# Altium footprint library Connector.PcbLib: 88 footprints (part 5 of 6)
Each footprint in its own frame and in the unit in brackets; x right, y up, seen from the top. Pads: shape width x height; smd on the part's side, far side on the other; paste and mask are expansions set on the pad; w line width, h text height; cw(c..) or ccw(c..) is an arc to the next point about the centre after c.
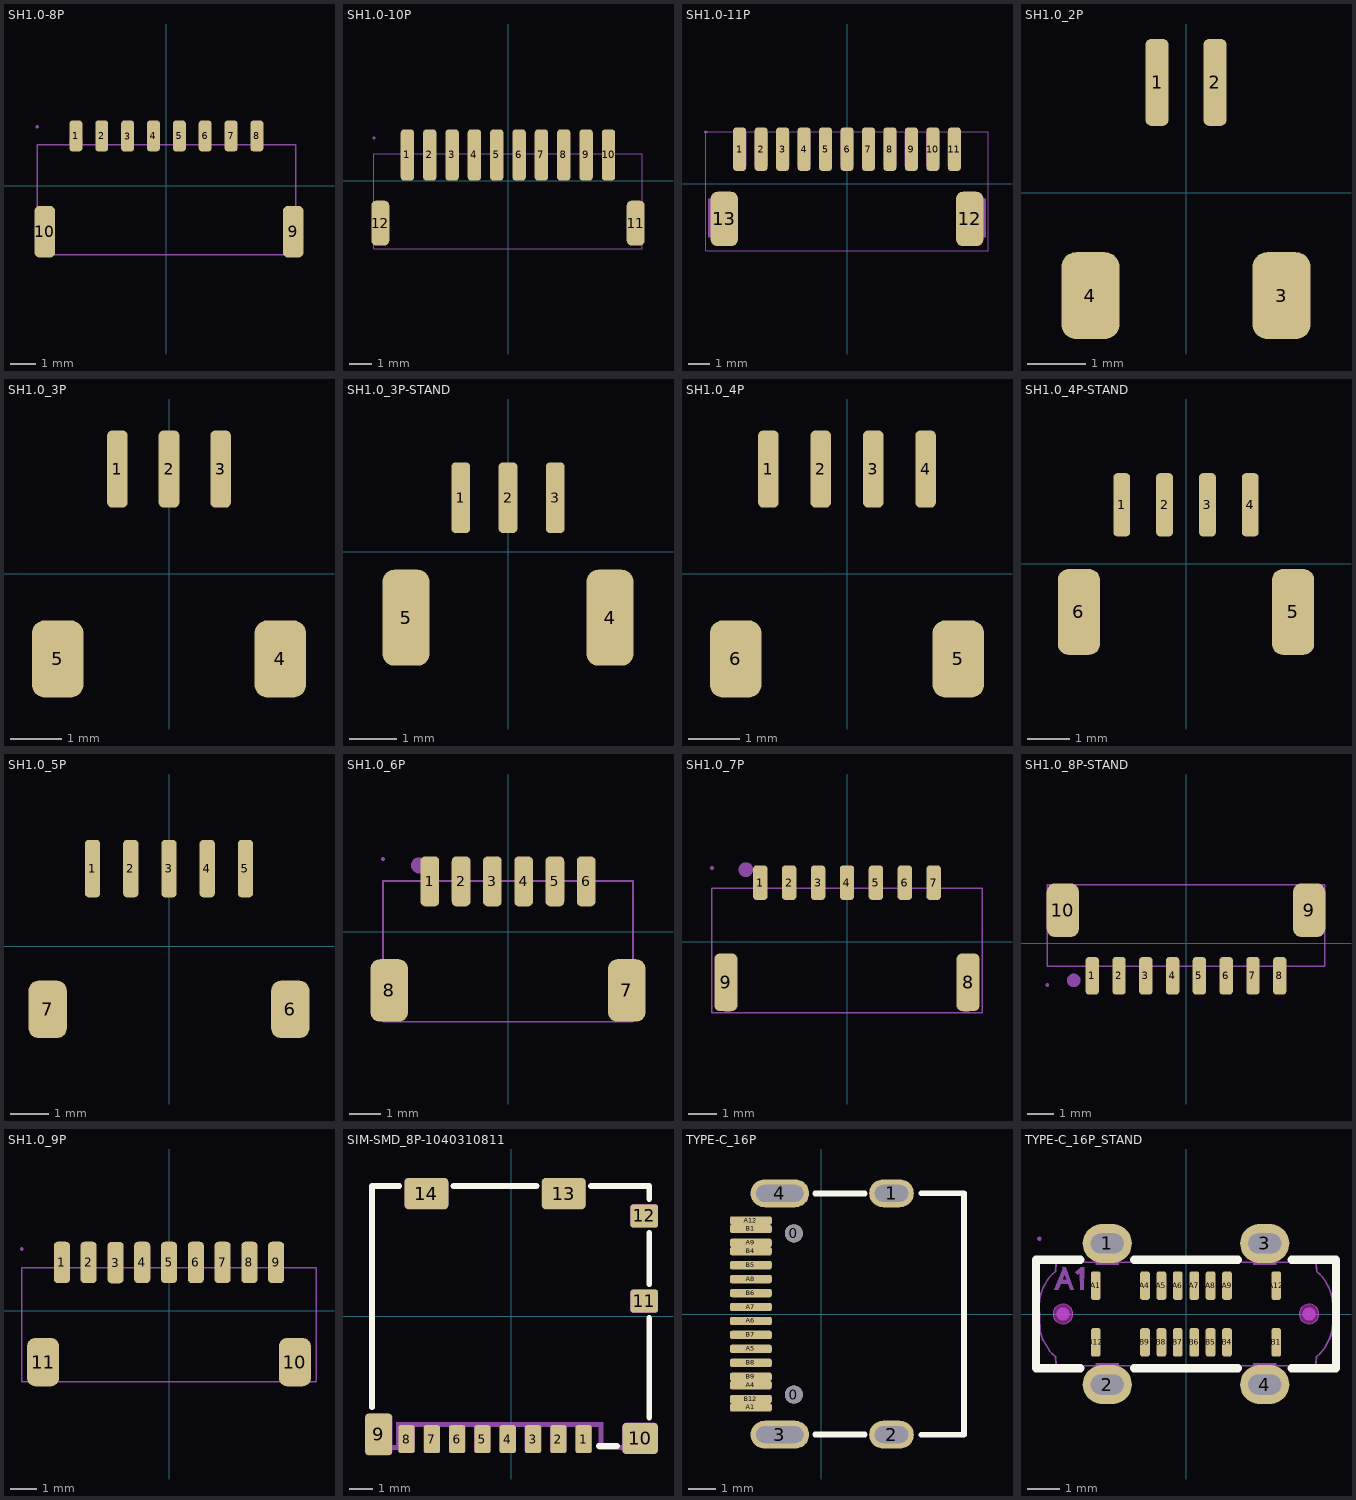
[diagram p4: the footprints below, top view; thin cyan lines are the x and y axes]

## SH1.0-8P [mm]
pads (10):
  rrect50% 0.5x1.2 smd paste+0 mask+0.051: 1(-3.5,1.924) 2(-2.5,1.924) 3(-1.5,1.922) 4(-0.5,1.924) 5(0.5,1.924) 6(1.5,1.924) 7(2.5,1.924) 8(3.5,1.924)
  rrect50% 0.8x2 smd paste+0 mask+0.051: 9(4.901,-1.778) 10(-4.699,-1.778)
Mechanical 6:
  circle w0.254: c-3.5,1.7 r0.127
Mechanical 15:
  region: -4.95,-1.174 -4.65,-1.174 -4.65,-2.674 -4.95,-2.674
  region: 4.65,-1.174 4.95,-1.174 4.95,-2.674 4.65,-2.674
  region: -3.4,1.476 -3.6,1.476 -3.6,2.276 -3.4,2.276
  region: -2.4,1.476 -2.6,1.476 -2.6,2.276 -2.4,2.276
  region: -1.4,1.476 -1.6,1.476 -1.6,2.276 -1.4,2.276
  region: -0.4,1.476 -0.6,1.476 -0.6,2.276 -0.4,2.276
  region: 0.6,1.476 0.4,1.476 0.4,2.276 0.6,2.276
  region: 1.6,1.476 1.4,1.476 1.4,2.276 1.6,2.276
  region: 2.6,1.476 2.4,1.476 2.4,2.276 2.6,2.276
  region: 3.6,1.476 3.4,1.476 3.4,2.276 3.6,2.276
  region: -4.94,2.276 -4.94,2.3 -4.975,2.336 -5.025,2.336 -5.06,2.3 -5.06,2.276 -5.06,2.251 -5.025,2.216 -4.975,2.216 -4.94,2.251 -4.94,2.276
  lines w0.051: -5,-2.674 5,-2.674 5,1.576 -5,1.576 -5,-2.674
3D body "SM8B-SRSS-TB.step": height 2.9, standoff -0.05, extent -5,-2.774 5,2.176

## SH1.0-10P [mm]
pads (12):
  rrect50% 0.6x2.286 smd paste+0 mask+0.051: 1(-4.503,1.143) 2(-3.503,1.143) 3(-2.5,1.143) 4(-1.503,1.143) 5(-0.503,1.143) 6(0.497,1.143) 7(1.497,1.143) 8(2.497,1.143) 9(3.497,1.143) 10(4.499,1.143)
  rrect50% 0.8x2 smd paste+0 mask+0.051: 11(5.715,-1.905) 12(-5.715,-1.905)
Mechanical 15:
  region: 5.676,-1.255 5.926,-1.255 5.926,-2.555 5.676,-2.555
  region: -5.926,-1.255 -5.676,-1.255 -5.676,-2.555 -5.926,-2.555
  region: -4.403,1.154 -4.603,1.154 -4.603,1.904 -4.403,1.904
  region: -3.403,1.154 -3.603,1.154 -3.603,1.904 -3.403,1.904
  region: -2.4,1.154 -2.6,1.154 -2.6,1.904 -2.4,1.904
  region: -1.403,1.154 -1.603,1.154 -1.603,1.904 -1.403,1.904
  region: -0.403,1.154 -0.603,1.154 -0.603,1.904 -0.403,1.904
  region: 0.597,1.154 0.397,1.154 0.397,1.904 0.597,1.904
  region: 1.597,1.154 1.397,1.154 1.397,1.904 1.597,1.904
  region: 2.597,1.154 2.397,1.154 2.397,1.904 2.597,1.904
  region: 3.597,1.154 3.397,1.154 3.397,1.904 3.597,1.904
  region: 4.599,1.154 4.399,1.154 4.399,1.904 4.599,1.904
  region: -5.94,1.904 -5.94,1.929 -5.975,1.964 -6.025,1.964 -6.06,1.929 -6.06,1.904 -6.06,1.88 -6.025,1.844 -5.975,1.844 -5.94,1.88 -5.94,1.904
  lines w0.051: -6,-3.046 6,-3.046 6,1.204 -6,1.204 -6,-3.046
3D body "SM10B-SRSS-TB.step": height 2.9, standoff -0.05, extent -6.003,-3.096 5.997,1.854

## SH1.0-11P [mm] "SH1.0-11P卧贴"
pads (13):
  rrect50% 0.6x2.032 smd mask+0.05: 1(-5,1.6) 2(-4,1.6) 3(-3,1.6) 4(-2,1.6) 5(-1,1.6) 6(0,1.6) 7(1,1.6) 8(2,1.6) 9(3,1.6) 10(4,1.6) 11(5,1.6)
  rrect50% 1.27x2.54 smd mask+0.05: 12(5.715,-1.651) 13(-5.715,-1.651)
Mechanical 15:
  region: 4.7,2.4 5.3,2.4 5.3,0.8 4.7,0.8
  region: 5.65,-0.7 6.45,-0.7 6.45,-2.5 5.65,-2.5
  region: -6.45,-0.7 -5.65,-0.7 -5.65,-2.5 -6.45,-2.5
  region: 3.7,2.4 4.3,2.4 4.3,0.8 3.7,0.8
  region: 2.7,2.4 3.3,2.4 3.3,0.8 2.7,0.8
  region: 1.7,2.4 2.3,2.4 2.3,0.8 1.7,0.8
  region: 0.7,2.4 1.3,2.4 1.3,0.8 0.7,0.8
  region: -0.3,2.4 0.3,2.4 0.3,0.8 -0.3,0.8
  region: -1.3,2.4 -0.7,2.4 -0.7,0.8 -1.3,0.8
  region: -2.3,2.4 -1.7,2.4 -1.7,0.8 -2.3,0.8
  region: -3.3,2.4 -2.7,2.4 -2.7,0.8 -3.3,0.8
  region: -4.3,2.4 -3.7,2.4 -3.7,0.8 -4.3,0.8
  region: -5.3,2.4 -4.7,2.4 -4.7,0.8 -5.3,0.8
  region: -6.517,2.4 -6.517,2.425 -6.552,2.46 -6.602,2.46 -6.637,2.425 -6.637,2.4 -6.637,2.375 -6.602,2.34 -6.552,2.34 -6.517,2.375 -6.517,2.4
  lines w0.051: -6.577,-3.127 -6.577,2.4 6.577,2.4 6.577,-3.127 -6.577,-3.127
3D body "SM11B-SRSS-TB.step": height 2.9, standoff -0.05, extent -6.5,-2.794 6.5,2.156

## SH1.0_2P [mm] "SH1.0_2P"
pads (4):
  rrect50% 0.4x1.5 smd: 1(-0.5,1.905) 2(0.5,1.905)
  rrect50% 1x1.5 smd: 3(1.651,-1.778) 4(-1.651,-1.778)
3D body "SM2B-SRSS-TB.step": height 2.9, standoff -0.05, extent -2.008,-2.472 1.992,2.478

## SH1.0_3P [mm] "SH1.0_3P"
pads (5):
  rrect50% 0.4x1.5 smd: 1(-1,2.032) 2(0,2.032) 3(1,2.032)
  rrect50% 1x1.5 smd: 4(2.159,-1.651) 5(-2.159,-1.651)
3D body "SM3B-SRSS-TB.step": height 2.9, standoff -0.05, extent -2.516,-2.345 2.484,2.605

## SH1.0_3P-STAND [mm] "SH1.0_3P"
pads (5):
  rrect50% 0.4x1.5 smd: 1(-1,1.143) 2(0,1.143) 3(1,1.143)
  rrect50% 1x2.032 smd: 4(2.159,-1.397) 5(-2.159,-1.397)
3D body "BM3B-SRSS-TB.step": height 4.25, standoff -0.05, extent -2.5,-2.286 2.5,1.314

## SH1.0_4P [mm] "SH1.0_4P"
pads (6):
  rrect50% 0.4x1.5 smd: 1(-1.524,2.032) 2(-0.508,2.032) 3(0.508,2.032) 4(1.524,2.032)
  rrect50% 1x1.5 smd: 5(2.159,-1.651) 6(-2.159,-1.651)
3D body "SM4B-SRSS-TB.step": height 2.9, standoff -0.05, extent -3,-2.332 3,2.618

## SH1.0_4P-STAND [mil] "SH1.0_4P"
pads (6):
  rrect50% 15.75x59.06 smd: 1(-60,55) 2(-20,55) 3(20,55) 4(60,55)
  rrect50% 39.37x80 smd: 5(100,-45) 6(-100,-45)
3D body "BM4B-SRSS-TB.step": height 167.32, standoff -1.97, extent -118.11,-81.73 118.11,60

## SH1.0_5P [mm] "SH1.0_5P"
pads (7):
  rrect50% 0.4x1.5 smd: 1(-2,2.032) 2(-1,2.032) 3(0,2.032) 4(1,2.032) 5(2,2.032)
  rrect50% 1x1.5 smd: 6(3.175,-1.651) 7(-3.175,-1.651)
3D body "SM5B-SRSS-TB.step": height 2.9, standoff -0.05, extent -3.532,-2.345 3.468,2.605

## SH1.0_6P [mm] "SH1.0_6P"
pads (8):
  rrect50% 0.6x1.6 smd mask+0.05: 1(-2.5,1.619) 2(-1.5,1.619) 3(-0.5,1.619) 4(0.5,1.619) 5(1.5,1.619) 6(2.5,1.619)
  rrect50% 1.2x2 smd mask+0.05: 7(3.8,-1.873) 8(-3.8,-1.873)
Mechanical 6:
  circle w0.254: c-2.847,2.128 r0.127
Mechanical 15:
  region: 3.7,-1.25 3.9,-1.25 3.9,-2.75 3.7,-2.75
  region: -3.9,-1.25 -3.7,-1.25 -3.7,-2.75 -3.9,-2.75
  region: -2.6,2.33 -2.4,2.33 -2.4,1.33 -2.6,1.33
  region: -1.6,2.33 -1.4,2.33 -1.4,1.33 -1.6,1.33
  region: -0.6,2.33 -0.4,2.33 -0.4,1.33 -0.6,1.33
  region: 0.4,2.33 0.6,2.33 0.6,1.33 0.4,1.33
  region: 1.4,2.33 1.6,2.33 1.6,1.33 1.4,1.33
  region: 2.4,2.33 2.6,2.33 2.6,1.33 2.4,1.33
  region: -3.94,2.33 -3.94,2.355 -3.975,2.39 -4.025,2.39 -4.06,2.355 -4.06,2.33 -4.06,2.305 -4.025,2.27 -3.975,2.27 -3.94,2.305 -3.94,2.33
  lines w0.051: -4,-2.87 4,-2.87 4,1.63 -4,1.63 -4,-2.87
3D body "SM6B-SRSS-TB.step": height 2.9, standoff -0.05, extent -4,-2.918 4,2.032

## SH1.0_7P [mm] "SH1.0_7P"
pads (9):
  rrect50% 0.5x1.2 smd mask+0.05: 1(-3,2.05) 2(-2,2.05) 3(-1,2.05) 4(0,2.05) 5(1,2.05) 6(2,2.05) 7(3,2.05)
  rrect50% 0.8x2 smd mask+0.05: 8(4.191,-1.397) 9(-4.191,-1.397)
Mechanical 6:
  circle w0.254: c-3.5,2.5 r0.127
Mechanical 15:
  region: -4.615,2.55 -4.615,2.575 -4.65,2.61 -4.7,2.61 -4.735,2.575 -4.735,2.55 -4.735,2.525 -4.7,2.49 -4.65,2.49 -4.615,2.525 -4.615,2.55
  region: 2.9,2.55 3.1,2.55 3.1,1.65 2.9,1.65
  region: 1.9,2.55 2.1,2.55 2.1,1.65 1.9,1.65
  region: 0.9,2.55 1.1,2.55 1.1,1.65 0.9,1.65
  region: -0.1,2.55 0.1,2.55 0.1,1.65 -0.1,1.65
  region: -1.1,2.55 -0.9,2.55 -0.9,1.65 -1.1,1.65
  region: -2.1,2.55 -1.9,2.55 -1.9,1.65 -2.1,1.65
  region: -3.1,2.55 -2.9,2.55 -2.9,1.65 -3.1,1.65
  region: 4.025,-1.25 4.225,-1.25 4.225,-2.45 4.025,-2.45
  region: -4.225,-1.25 -4.025,-1.25 -4.025,-2.45 -4.225,-2.45
  lines w0.051: -4.675,-2.45 -4.675,1.85 4.675,1.85 4.675,-2.45 -4.675,-2.45
3D body "SM7B-SRSS-TB.step": height 2.9, standoff -0.05, extent -4.5,-2.4 4.5,2.55

## SH1.0_8P-STAND [mm]
pads (10):
  rrect50% 0.5x1.4 smd paste+0 mask+0.05: 1(-3.5,-1.225) 2(-2.5,-1.225) 3(-1.5,-1.225) 4(-0.5,-1.225) 5(0.5,-1.225) 6(1.5,-1.225) 7(2.5,-1.225) 8(3.5,-1.225)
  rrect50% 1.2x2 smd paste+0 mask+0.05: 9(4.6,1.225) 10(-4.6,1.225)
Mechanical 6:
  circle w0.254: c-4.191,-1.397 r0.127
Mechanical 15:
  region: -5.115,-1.565 -5.115,-1.54 -5.15,-1.505 -5.2,-1.505 -5.235,-1.54 -5.235,-1.565 -5.235,-1.59 -5.2,-1.625 -5.15,-1.625 -5.115,-1.59 -5.115,-1.565
  region: 0.4,-0.765 0.6,-0.765 0.6,-1.565 0.4,-1.565
  region: 1.4,-0.765 1.6,-0.765 1.6,-1.565 1.4,-1.565
  region: 3.4,-0.765 3.6,-0.765 3.6,-1.565 3.4,-1.565
  region: 2.4,-0.765 2.6,-0.765 2.6,-1.565 2.4,-1.565
  region: -1.6,-0.765 -1.4,-0.765 -1.4,-1.565 -1.6,-1.565
  region: -0.6,-0.765 -0.4,-0.765 -0.4,-1.565 -0.6,-1.565
  region: -2.6,-0.765 -2.4,-0.765 -2.4,-1.565 -2.6,-1.565
  region: -3.6,-0.765 -3.4,-0.765 -3.4,-1.565 -3.6,-1.565
  region: -4.7,1.875 -4.5,1.875 -4.5,0.575 -4.7,0.575
  region: 4.5,1.875 4.7,1.875 4.7,0.575 4.5,0.575
  lines w0.051: -5.175,-0.875 -5.175,2.175 5.175,2.175 5.175,-0.875 -5.175,-0.875

## SH1.0_9P [mm] "SH1.0_9P"
pads (11):
  rrect50% 0.6x1.55 smd mask+0.051: 1(-4,1.797) 2(-3,1.797) 3(-1.997,1.795) 4(-0.999,1.797) 5(0,1.797) 6(1.001,1.797) 7(2,1.797) 8(3,1.797) 9(4,1.797)
  rrect50% 1.2x1.8 smd mask+0.051: 10(4.7,-1.924) 11(-4.7,-1.924)
Mechanical 15:
  region: -4.977,-1.224 -4.677,-1.224 -4.677,-2.624 -4.977,-2.624
  region: 4.677,-1.224 4.977,-1.224 4.977,-2.624 4.677,-2.624
  region: -3.9,1.549 -4.1,1.549 -4.1,2.299 -3.9,2.299
  region: -2.9,1.549 -3.1,1.549 -3.1,2.299 -2.9,2.299
  region: -1.897,1.547 -2.097,1.547 -2.097,2.297 -1.897,2.297
  region: -0.899,1.549 -1.099,1.549 -1.099,2.299 -0.899,2.299
  region: 0.1,1.549 -0.1,1.549 -0.1,2.299 0.1,2.299
  region: 1.101,1.549 0.901,1.549 0.901,2.299 1.101,2.299
  region: 2.1,1.549 1.9,1.549 1.9,2.299 2.1,2.299
  region: 3.1,1.549 2.9,1.549 2.9,2.299 3.1,2.299
  region: 4.1,1.549 3.9,1.549 3.9,2.299 4.1,2.299
  region: -5.44,2.299 -5.44,2.324 -5.475,2.359 -5.525,2.359 -5.56,2.324 -5.56,2.299 -5.56,2.275 -5.525,2.239 -5.475,2.239 -5.44,2.275 -5.44,2.299
  lines w0.051: -5.5,-2.649 5.5,-2.649 5.5,1.601 -5.5,1.601 -5.5,-2.649
3D body "SM9B-SRSS-TB.step": height 2.9, standoff -0.05, extent -5.5,-2.701 5.5,2.249

## SIM-SMD_8P-1040310811 [mm] "SMD; TFCard"
height -909.212
pads (14):
  rrect25% 0.7x1.2 smd mask+0.05: 1(3.138,-5.337) 2(2.037,-5.337) 3(0.938,-5.337) 4(-0.162,-5.337) 5(-1.263,-5.337) 6(-2.363,-5.337) 7(-3.462,-5.337) 8(-4.562,-5.337)
  rrect25% 1.17x1.8 smd mask+0.05: 9(-5.773,-5.138)
  rrect25% 1.55x1.35 smd mask+0.05: 10(5.598,-5.313)
  rrect25% 1.2x1 smd mask+0.05: 11(5.773,0.663) 12(5.773,4.363)
  rrect25% 1.9x1.35 smd mask+0.05: 13(2.273,5.337) 14(-3.697,5.337)
Top Overlay:
  region: 6.062,-5.75 6.061,-5.738 6.058,-5.727 6.052,-5.717 6.045,-5.708 6.035,-5.7 6.025,-5.695 6.014,-5.691 6.002,-5.69 5.99,-5.691 5.979,-5.695 5.969,-5.7 5.96,-5.708 5.952,-5.717 5.947,-5.727 5.943,-5.738 5.942,-5.75 5.943,-5.762 5.947,-5.773 5.952,-5.783 5.96,-5.792 5.969,-5.8 5.979,-5.805 5.99,-5.809 6.002,-5.81 6.014,-5.809 6.025,-5.805 6.035,-5.8 6.045,-5.792 6.052,-5.783 6.058,-5.773 6.061,-5.762
  lines w0.254: -6.071,-3.956 -6.071,5.665 -4.879,5.665 ; -2.516,5.665 1.091,5.665 ; 3.454,5.665 5.994,5.665 5.994,5.094 ; 3.794,-5.638 4.591,-5.638 ; 5.994,-4.406 5.994,-0.069 ; 5.994,1.394 5.994,3.631
Mechanical 2:
  region: -6,-5.8 -4.8,-5.8 -4.8,-5.6 -6,-5.6
  region: 3.8,-5.8 6,-5.8 6,-5.6 3.8,-5.6
  region: 3.8,-5.6 3.8,-4.8 4,-4.8 4,-5.6
  region: -4.8,-5.6 -4.8,-4.8 -5,-4.8 -5,-5.6
  region: -5,-4.8 4,-4.8 4,-4.6 -5,-4.6
Mechanical 9:
  drawing of 14 lines, arcs and shapes, not listed
3D body "SIM-SMD_8P-1040310811.step": height 1, standoff 0, extent -5.95,-5.75 6,5.65

## TYPE-C_16P [mm] "TYPE-C_16P"
pads (22):
  round 0.65 hole 0.65: 0(-0.98,-2.89) 0(-0.98,2.89)
  oval 1.6x1 hole 0.6 slot 1.2 at 0 deg: 1(2.52,4.325) 2(2.52,-4.325)
  oval 2.1x1 hole 0.6 slot 1.7 at 0 deg: 3(-1.48,-4.325) 4(-1.48,4.325)
  rrect50% 1.5x0.3 smd: A1(-2.52,-3.35) A4(-2.52,-2.55) A5(-2.52,-1.25) A6(-2.52,-0.25) A7(-2.52,0.25) A8(-2.52,1.25) A9(-2.52,2.55) A12(-2.52,3.35) B1(-2.52,3.05) B4(-2.52,2.25) B5(-2.52,1.75) B6(-2.52,0.75) B7(-2.52,-0.75) B8(-2.52,-1.75) B9(-2.52,-2.25) B12(-2.52,-3.05)
Top Overlay:
  lines w0.203: -0.218,-4.318 1.56,-4.318 ; -0.218,4.318 1.56,4.318 ; 3.592,-4.325 5.12,-4.325 5.12,4.325 3.592,4.325
3D body "1.step": height 3.26, standoff -1, extent -2.568,-4.475 5.182,4.475

## TYPE-C_16P_STAND [mm]
pads (20):
  oval 1.5x1.2 hole 0.61 slot 1 at 0 deg: 1(-2.4,2.15) 2(-2.4,-2.15) 3(2.4,2.15) 4(2.4,-2.15)
  rrect50% 0.3x0.87 smd paste-100 mask+0.051: A1(-2.75,0.865) A4(-1.25,0.865) A5(-0.75,0.865) A6(-0.25,0.865) A7(0.25,0.865) A8(0.75,0.865) A9(1.25,0.865) A12(2.75,0.865) B1(2.75,-0.865) B4(1.25,-0.865) B5(0.75,-0.865) B6(0.25,-0.865) B7(-0.25,-0.865) B8(-0.75,-0.865) B9(-1.25,-0.865) B12(-2.75,-0.865)
Top Overlay:
  lines w0.254: -4.572,1.397 -4.572,1.651 -3.214,1.651 ; -4.572,1.524 -4.572,-1.651 -3.214,-1.651 ; -1.586,-1.651 1.586,-1.651 ; -1.586,1.651 1.586,1.651 ; 3.214,-1.651 4.572,-1.651 4.572,1.524 4.572,1.651 3.214,1.651
Top Paste:
  drawing of 20 lines, arcs and shapes, not listed
Keep-Out Layer:
  board cut-out: -3.45,0 -3.45,0.06 -3.496,0.17 -3.58,0.254 -3.69,0.3 -3.81,0.3 -3.92,0.254 -4.004,0.17 -4.05,0.06 -4.05,0 -4.05,-0.06 -4.004,-0.17 -3.92,-0.254 -3.81,-0.3 -3.69,-0.3 -3.58,-0.254 -3.496,-0.17 -3.45,-0.06 -3.45,0
  board cut-out: 4.05,0 4.05,0.06 4.004,0.17 3.92,0.254 3.81,0.3 3.69,0.3 3.58,0.254 3.496,0.17 3.45,0.06 3.45,0 3.45,-0.06 3.496,-0.17 3.58,-0.254 3.69,-0.3 3.81,-0.3 3.92,-0.254 4.004,-0.17 4.05,-0.06 4.05,0
Mechanical 1:
  circle w0.005: c-3.75,0 r0.3
  circle w0.005: c3.75,0 r0.3
Mechanical 6:
  circle w0.2: c-3.75,0 r0.1
  circle w0.2: c3.75,0 r0.1
  region: -3.304,1.196 -3.365,1.257 -3.366,1.258 -3.368,1.261 -3.369,1.264 -3.37,1.267 -3.37,1.269 -3.201,1.423 -3.108,1.421 -3.119,0.743 -3.23,0.741 -3.234,1.26
  region: -3.532,0.733 -3.419,0.734 -3.669,1.42 -3.777,1.419 -3.775,1.419
  region: -3.702,1.205 -3.889,0.735 -4.013,0.737 -3.763,1.382
  region: -3.759,1.05 -3.646,1.049 -3.599,0.917 -3.811,0.921
Mechanical 15:
  drawing of 57 lines, arcs and shapes, not listed